# Altium integrated library keyboradLib.IntLib: 6 symbols
Pins are listed as number, name and electrical type; pins without a type are passive.

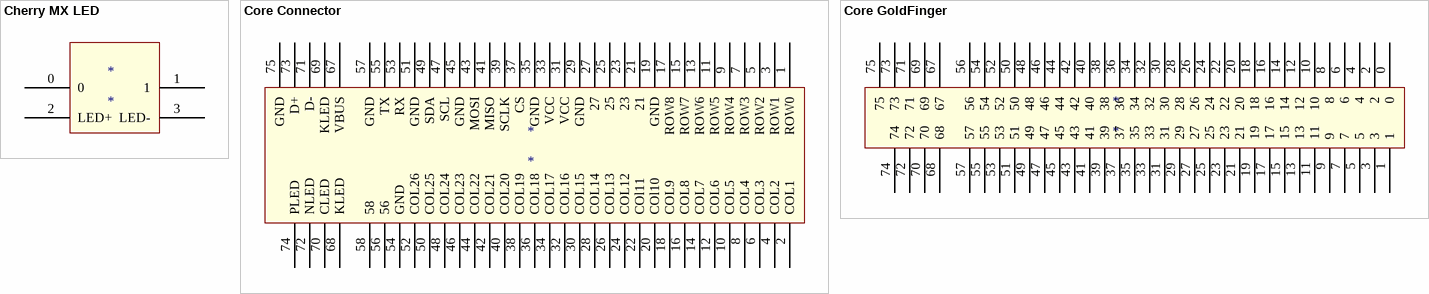
[diagram p0: symbols Cherry MX LED to Core GoldFinger]

## Cherry MX LED
designator *
footprint Cherry Standard MX Switch
footprint CHERRY  MX (带热插拔)
pins: 0, 1, 2 LED+, 3 LED-

## Core Connector
designator *
footprint Core Connector
pins: 1 ROW0, 2 COL1, 3 ROW1, 4 COL2, 5 ROW2, 6 COL3, 7 ROW3, 8 COL4, 9 ROW4, 10 COL5, 11 ROW5, 12 COL6, 13 ROW6, 14 COL7, 15 ROW7, 16 COL8, 17 ROW8, 18 COL9, 19 GND, 20 COl10, 21, 22 COl11, 23, 24 COL12, 25, 26 COL13, 27, 28 COL14, 29 GND, 30 COL15, 31 VCC, 32 COL16, 33 VCC, 34 COL17, 35 GND, 36 COL18, 37 CS, 38 COL19, 39 SCLK, 40 COL20, 41 MISO, 42 COL21, 43 MOSI, 44 COL22, 45 GND, 46 COL23, 47 SCL, 48 COL24, 49 SDA, 50 COL25, 51 GND, 52 COL26, 53 RX, 54 GND, 55 TX, 56, 57 GND, 58, 67 VBUS, 68 KLED, 69 KLED, 70 CLED, 71 D-, 72 NLED, 73 D+, 74 PLED, 75 GND

## Core GoldFinger
designator *
footprint Core GoldFinger
pins: 0, 1, 2, 3, 4, 5, 6, 7, 8, 9, 10, 11, 12, 13, 14, 15, 16, 17, 18, 19, 20, 21, 22, 23, 24, 25, 26, 27, 28, 29, 30, 31, 32, 33, 34, 35, 36, 37, 38, 39, 40, 41, 42, 43, 44, 45, 46, 47, 48, 49, 50, 51, 52, 53, 54, 55, 56, 57, 67, 68, 69, 70, 71, 72, 73, 74, 75


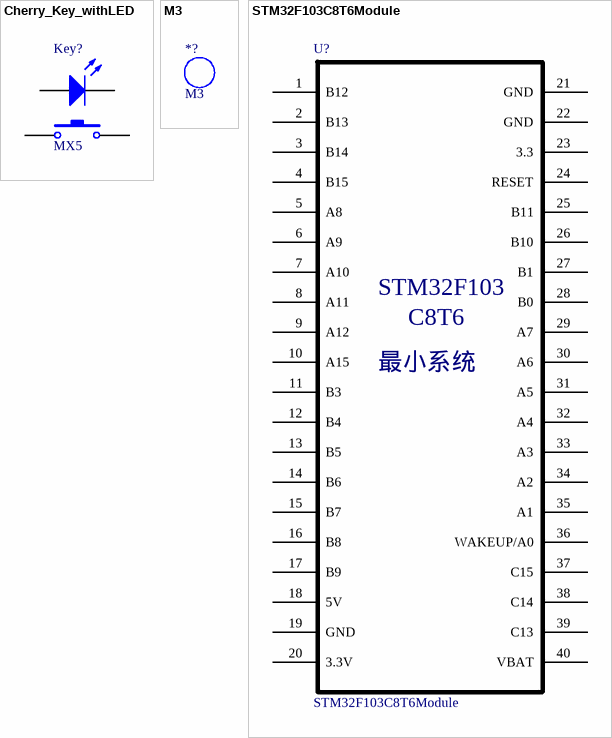
[diagram p1: symbols Cherry_Key_withLED to STM32F103C8T6Module]

## Cherry_Key_withLED
designator Key?, comment MX5
footprint Cherry MX Switch (樱桃轴体)
pins: 1, 2, A, K

## M3
designator *?
铜柱孔; 版权归属: 源创客; BOM名称: 铜柱孔; 学习资源: www.ooocke.com
footprint M3 140X350 (M3螺丝孔，孔140Mil，焊盘350Mil)
footprint M3 125X300 (M3螺丝孔，孔125Mil，焊盘300Mil)
footprint M3 125X200 (M3螺丝孔，孔125Mil，焊盘200Mil)

## STM32F103C8T6Module
designator U?
footprint STM32F103C8T6_Module (最常用的32小蓝板)
pins: 1 B12, 2 B13, 3 B14, 4 B15, 5 A8, 6 A9, 7 A10, 8 A11, 9 A12, 10 A15, 11 B3, 12 B4, 13 B5, 14 B6, 15 B7, 16 B8, 17 B9, 18 5V, 19 GND, 20 3.3V, 21 GND, 22 GND, 23 3.3, 24 RESET, 25 B11, 26 B10, 27 B1, 28 B0, 29 A7, 30 A6, 31 A5, 32 A4, 33 A3, 34 A2, 35 A1, 36 WAKEUP/A0, 37 C15, 38 C14, 39 C13, 40 VBAT
text: STM32F103; C8T6; 最小系统